# Altium footprint library Sonar.PcbLib: 1 footprints
Each footprint in its own frame and in the unit in brackets; x right, y up, seen from the top. Pads: shape width x height; smd on the part's side, far side on the other; paste and mask are expansions set on the pad; w line width, h text height; cw(c..) or ccw(c..) is an arc to the next point about the centre after c.
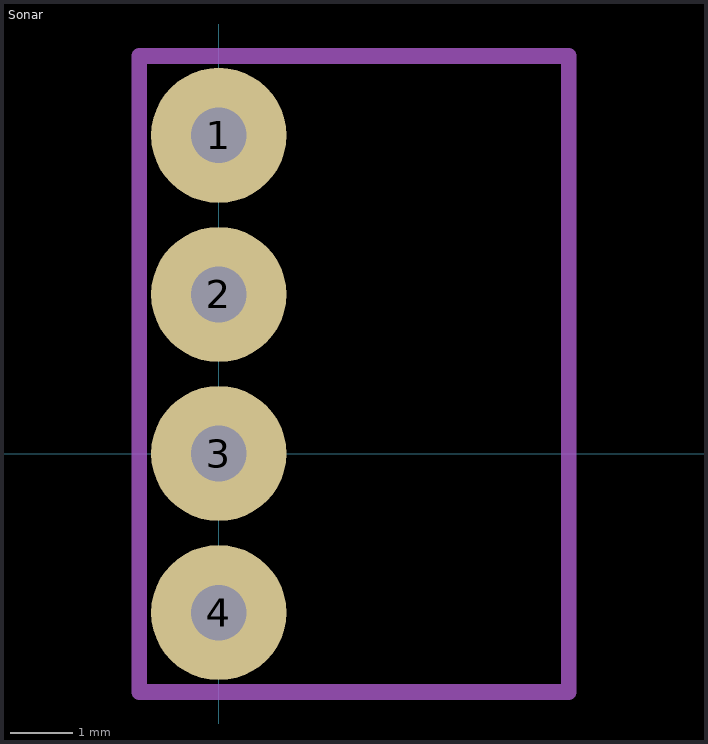
[diagram p0: the footprint, top view; thin cyan lines are the x and y axes]

## Sonar [mil]
pads (4):
  round 85 hole 35: 1(0,200) 2(0,100) 3(0,0) 4(0,-100)
Mechanical 1:
  lines w10: -50,-150 220,-150 220,250 -50,250 -50,-150
3D body "DS1021-1x4S61.stp": height 338.58, standoff -118.11, extent -49.99,-150.01 50.01,249.99